# Altium schematic symbol library RC0603FR-071ML.SchLib: 1 symbol
Pins are listed as number, name and electrical type; pins without a type are passive.

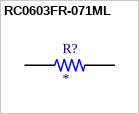
[diagram p0: symbol RC0603FR-071ML]

## RC0603FR-071ML
designator R?
1 MOhms Â±1% 0.1W, 1/10W Chip Resistor 0603 (1608 Metric) Moisture Resistant Thick Film; MF: Yageo Corporation; MP: RC0603FR071ML; SnapEDA_Link: https://www.snapeda.com/parts/RC0603FR071ML/Yageo/view-part/?ref=snap; Package: 0603-2 YAGEO; Value: *; Check_prices: https://www.snapeda.com/parts/RC0603FR071ML/Yageo/view-part/?ref=eda
footprint RESC1607X60N
pins: 1, 2